# EAGLE library part ADC-TI-ADS1100 (library magzor)
16-bit (I think) ADC (analog-to-digital converter) by TI
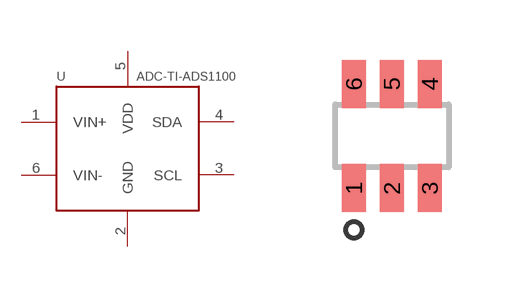
[diagram p0: symbol with the pads of SOT23-6; footprint SOT23-6]

Designator prefix U

## ADC-TI-ADS1100  [SOT23-6]
1  VIN+
2  GND
3  SCL
4  SDA
5  VDD
6  VIN-

## Footprint SOT23-6 (pad centres in mm)
smd 0.6 x 1.2: 1 -0.95,-1.306; 2 0,-1.306; 3 0.95,-1.306; 4 0.95,1.306; 5 0,1.306; 6 -0.95,1.306